# Altium schematic symbol library CAP 25V.SchLib: 1 symbol
Pins are listed as number, name and electrical type; pins without a type are passive.

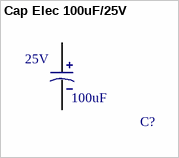
[diagram p0: symbol Cap Elec 100uF/25V]

## Cap Elec 100uF/25V
designator C?  Capacitance: 100uF  Voltage: 25V  (hidden comment: Cap Elec 100uF/25V)
100µF 25V Aluminum Electrolytic Capacitors Radial, Can  5000 Hrs @ 105°C; Manufacturer 1: Nichicon; Manufacturer 1 PN: UHE1E101MED; Mouser PN: 647-UHE1E101MED; ComponentLink1Description: Datasheet; ComponentLink1URL: http://www.rubycon.co.jp/en/catalog/e_pdfs/aluminum/e_zlh.pdf; Digikey PN: 493-1548-ND
footprint Cap Elec 100uF/25V (100µF 25V Aluminum Electrolytic Capacitors Radial, Can  5000 Hrs @ 105°C)
pins: 1, 2